# Altium footprint library 00001-A-01.PcbLib: 40 footprints (part 3 of 3)
Each footprint in its own frame and in the unit in brackets; x right, y up, seen from the top. Pads: shape width x height; smd on the part's side, far side on the other; paste and mask are expansions set on the pad; w line width, h text height; cw(c..) or ccw(c..) is an arc to the next point about the centre after c.
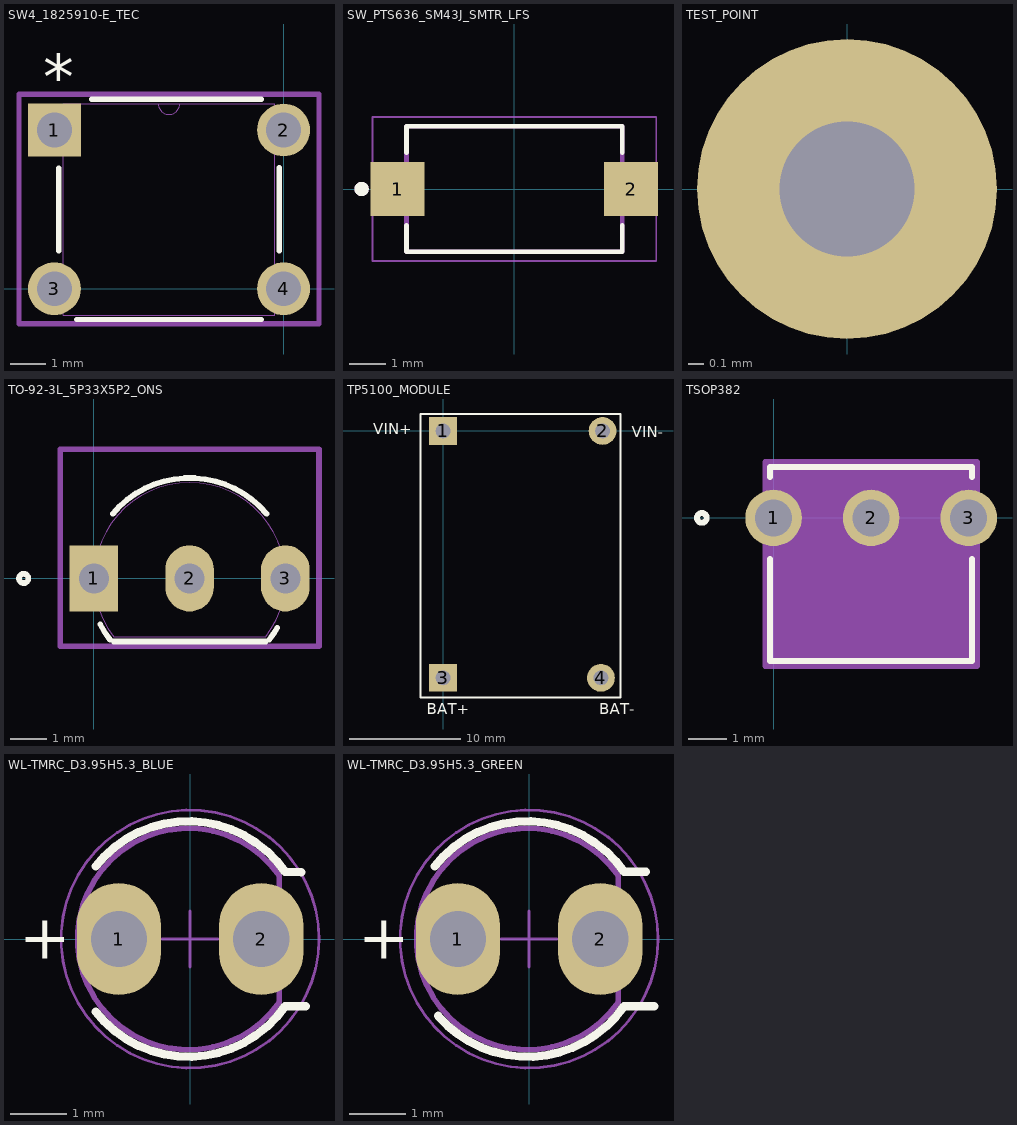
[diagram p2: the footprints below, top view; thin cyan lines are the x and y axes]

## SW4_1825910-E_TEC [mil]
pads (4):
  rect 59x59 / inner round 60 / far side rect 59x59 hole 39 paste-99999 mask+0: 1(-255.91,177.17)
  round 59 / inner round 60 / far side round 59 hole 39 paste-99999 mask-29.5: 2(0,177.17) 3(-255.91,0) 4(0,0)
Top Overlay:
  lines w6: -250.95,42.31 -250.95,134.57 ; -230.8,-34.42 -25.1,-34.42 ; -214.26,211.58 -25.1,211.58 ; -4.95,42.31 -4.95,134.85
  text "*" at -268.41,211.67 h50
Mechanical 13:
  lines w0: -139.95,206.58 ccw(c-127.95,206.58) -115.95,206.58
  lines w1: -275.41,-19.5 -275.41,19.5 -245.95,19.5 -245.95,-19.5 -275.41,-19.5 ; -275.41,157.67 -275.41,196.67 -245.95,196.67 -245.95,157.67 -275.41,157.67 ; -245.95,-29.42 -9.95,-29.42 -9.95,206.58 -245.95,206.58 -245.95,-29.42 ; -9.95,-19.5 -9.95,19.5 19.5,19.5 19.5,-19.5 -9.95,-19.5 ; -9.95,157.67 -9.95,196.67 19.5,196.67 19.5,157.67 -9.95,157.67
  text "*" at -222.5,155 h50
Mechanical 15:
  lines w6: -295.41,-39 -295.41,217 39.5,217 39.5,-39 -295.41,-39
3D body "c-1-1825910-8-c-3d.stp": height 110.63, standoff -314.96, extent -288.54,-27.91 18.54,207.91

## SW_PTS636_SM43J_SMTR_LFS [mm]
pads (2):
  rect 1.5x1.5 smd: 1(-3.25,0) 2(3.25,0)
Top Overlay:
  circle w0.2: c-4.25,0 r0.1
  lines w0.127: -3,-1.014 -3,-1.75 3,-1.75 3,-1.014 ; -3,1.014 -3,1.75 3,1.75 3,1.014
Mechanical 13:
  circle w0.2: c-4.25,0 r0.1
  lines w0.127: -3,-1.75 -3,1.75 3,1.75 3,-1.75 -3,-1.75
Mechanical 15:
  lines w0.05: -3.95,-2 -3.95,2 3.95,2 3.95,-2 -3.95,-2
3D body "PTS636 SM43J SMTR LFS--3DModel-STEP-56544.STEP": height 4.3, standoff 0, extent -3.55,-1.778 3.55,1.722

## TEST_POINT [mm]
pads (1):
  round 2 hole 0.9: ""(0,0)

## TO-92-3L_5P33X5P2_ONS [mil]
pads (3):
  rect 52x70.87 / inner oval 60x70.87 / far side rect 52x70.87 hole 32 paste-99999 mask+0: 1(0,0)
  oval 52x70.87 / inner oval 60x70.87 / far side oval 52x70.87 hole 32 paste-99999 mask+0: 2(102.36,0) 3(204.72,0)
Top Overlay:
  circle w6: c-75.14,0 r5
  lines w6: 6.74,-49.11 ccw(c102.36,0) 17.16,-65.55 ; 20.06,69.15 cw(c102.36,0) 184.79,69.01 ; 21.12,-67.5 183.6,-67.5 ; 187.57,-65.55 ccw(c102.36,0) 196.02,-52.76
Mechanical 13:
  circle w0: c9.86,0 r5
  lines w0: 21.12,-62.5 cw(c102.36,0) 183.6,-62.5
  lines w1: 21.12,-62.5 183.6,-62.5
  lines w6: -10,0 10,0 ; 0,-10 0,10
Mechanical 15:
  lines w6: -36,-72.5 240.72,-72.5 240.72,138.36 -36,138.36 -36,-72.5
3D body "BC557ATA.step": height 384.65, standoff -472.44, extent -9.34,-54.87 213.5,87.65

## TP5100_MODULE [mm]
pads (4):
  rect 2.5x2.5 hole 1.3: 1(0,0) 3(0,-22.2)
  round 2.5 hole 1.3: 2(14.351,0) 4(14.2,-22.2)
Top Overlay:
  lines w0.18: -2.032,-23.976 15.968,-23.976 15.968,1.524 -2.032,1.524 -2.032,-23.976
  text "BAT-" at 14.043,-25.454 h1
  text "BAT+" at -1.451,-25.454 h1
  text "VIN-" at 16.964,-0.562 h1
  text "VIN+" at -6.277,-0.308 h1
3D body "tp5100 v2 (step).step": height 4.64, standoff 0.1, extent -1.515,-23.622 15.485,1.378

## TSOP382 [mil]
pads (3):
  round 58 / inner round 60 / far side round 58 hole 38 paste-99999 mask+0: 1(0,0) 2(100,0) 3(200,0)
Top Overlay:
  circle w6: c-73.5,0 r5
  lines w6: -3.5,-41.95 -3.5,-146.74 203.5,-146.74 203.5,-41.95 ; -3.5,41.95 -3.5,52.26 203.5,52.26 203.5,41.95 ; 1.5,52.26 198.5,52.26
Mechanical 13:
  circle w0: c11.5,0 r5
  lines w1: 1.5,47.26 1.5,-141.74 198.5,-141.74 198.5,47.26 ; 1.5,47.26 198.5,47.26 ; 1.5,47.26 198.5,47.26
  text "TAB" at 81.25,34.76 h25
Mechanical 15:
  region: 208.5,57.26 -8.5,57.26 -8.5,-151.74 208.5,-151.74
  lines w6: -8.5,-151.74 208.5,-151.74 208.5,57.26 -8.5,57.26 -8.5,-151.74
3D body "82687Minicast_SS.stp": height 787.4, standoff -413.39, extent -13.39,-139.33 214.17,49.21

## WL-TMRC_D3.95H5.3_BLUE [mm] "THT Mono-color Round Color LED, 2-leads"
height 5.3
pads (2):
  oval 1.5x2 hole 1 mask+0.08: 1(-1.27,0) 2(1.27,0)
Top Overlay:
  lines w0.15: -1.683,-1.295 ccw(c-0.03,0) 1.694,-1.199 2.061,-1.2 ; -1.683,1.295 cw(c-0.03,0) 1.694,1.199 1.981,1.189
  text "+" at -3.05,-0.35 h0.8
Top Courtyard:
  circle w0.05: c0,0 r2.3
  lines w0.05: -0.5,0 0.5,0 ; 0,-0.5 0,0.5
Top Component Outline:
  lines w0.1: 1.591,-1.128 cw(c-0.03,0) 1.591,1.128 1.591,-1.128
3D body "15103xxx.stp": height 5.35, standoff -26.35, extent -1.991,-1.963 1.629,1.963

## WL-TMRC_D3.95H5.3_GREEN [mm] "THT Mono-color Round Color LED, 2-leads"
height 5.3
pads (2):
  oval 1.5x2 hole 1: 1(-1.27,0) 2(1.27,0)
Top Overlay:
  lines w0.15: -1.683,1.295 cw(c-0.03,0) 1.694,1.199 2.085,1.201 ; -1.621,-1.371 ccw(c-0.03,0) 1.694,-1.199 2.236,-1.2
  text "+" at -3.05,-0.35 h0.8
Top Courtyard:
  circle w0.05: c0,0 r2.3
  lines w0.05: -0.5,0 0.5,0 ; 0,-0.5 0,0.5
Top Component Outline:
  lines w0.1: 1.591,-1.128 cw(c-0.03,0) 1.591,1.128 1.591,-1.128
3D body "15103xxx.stp": height 5.35, standoff -26.35, extent -1.991,-1.963 1.629,1.963